# EAGLE library part FT6581 (library 65xxx)
Sound interface device
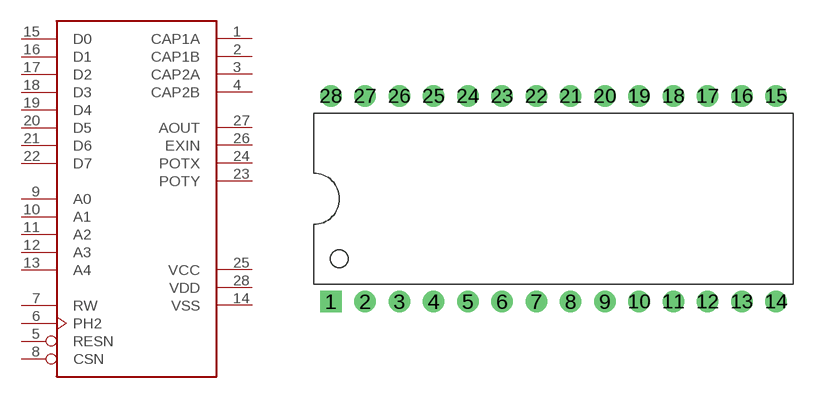
[diagram p8: symbol with the pads of DIP-28; footprint DIP-28]

Designator prefix -

## FT6581  [DIP-28]
1  CAP1A
2  CAP1B
3  CAP2A
4  CAP2B
5  RESN  in
6  PH2  in
7  RW  in
8  CSN  in
9  A0  in
10  A1  in
11  A2  in
12  A3  in
13  A4  in
14  VSS  pwr
15  D0
16  D1
17  D2
18  D3
19  D4
20  D5
21  D6
22  D7
23  POTY  in
24  POTX  in
25  VCC  pwr
26  EXIN  in
27  AOUT  out
28  VDD  pwr

## Footprint DIP-28 (pad centres in mm)
28-Pin DIP, 0.6" Wide
drill 0.889 pad 1.6 square: 1 -15.24,-7.62
drill 0.889 pad 1.6: 2 -12.7,-7.62; 3 -10.16,-7.62; 4 -7.62,-7.62; 5 -5.08,-7.62; 6 -2.54,-7.62; 7 0,-7.62; 8 2.54,-7.62; 9 5.08,-7.62; 10 7.62,-7.62; 11 10.16,-7.62; 12 12.7,-7.62; 13 15.24,-7.62; 14 17.78,-7.62; 15 17.78,7.62; 16 15.24,7.62; 17 12.7,7.62; 18 10.16,7.62; 19 7.62,7.62; 20 5.08,7.62; 21 2.54,7.62; 22 0,7.62; 23 -2.54,7.62; 24 -5.08,7.62; 25 -7.62,7.62; 26 -10.16,7.62; 27 -12.7,7.62; 28 -15.24,7.62